# Altium schematic symbol library SCH - SWITCH - TI TPS2065DBVR.Schlib: 1 symbol
Pins are listed as number, name and electrical type; pins without a type are passive.

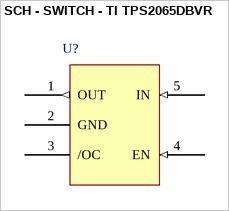
[diagram p0: symbol SCH - SWITCH - TI TPS2065DBVR]

## SCH - SWITCH - TI TPS2065DBVR
designator U?
footprint *SOT95P280X145-5N
pins: 1 OUT (out), 2 GND, 3 /OC, 4 EN (in), 5 IN (in)